# EAGLE library part E-L9338MD (library sneecat_lib)
STM Micro Quad low side gate driver 25V supply https://www.mouser.com/datasheet/2/389/l9338-1849485.pdf
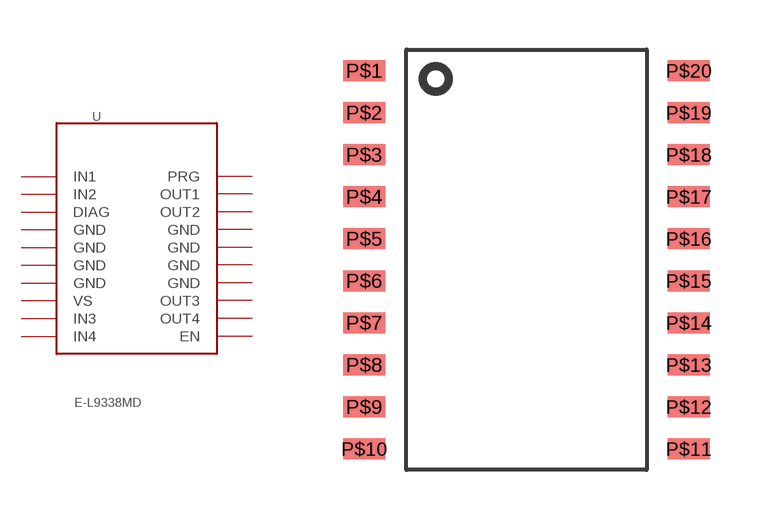
[diagram p2: symbol with the pads of SO-20; footprint SO-20]

Designator prefix -

## E-L9338MD  [SO-20]
P$1  IN1
P$2  IN2
P$3  DIAG
P$4  GND
P$5  GND
P$6  GND
P$7  GND
P$8  VS
P$9  IN3
P$10  IN4
P$11  PRG
P$12  OUT1
P$13  OUT2
P$14  GND
P$15  GND
P$16  GND
P$17  GND
P$18  OUT3
P$19  OUT4
P$20  EN

## Footprint SO-20 (pad centres in mm)
Small Outline 20 pin IC
smd 1.27 x 0.635: P$1 0,0; P$2 0,-1.27; P$3 0,-2.54; P$4 0,-3.81; P$5 0,-5.08; P$6 0,-6.35; P$7 0,-7.62; P$8 0,-8.89; P$9 0,-10.16; P$10 0,-11.43; P$11 9.8,-11.43; P$12 9.8,-10.16; P$13 9.8,-8.89; P$14 9.8,-7.62; P$15 9.8,-6.35; P$16 9.8,-5.08; P$17 9.8,-3.81; P$18 9.8,-2.54; P$19 9.8,-1.27; P$20 9.8,0